# Altium footprint library CONN-TH_2P-P2.50_XH-2A_3045048.PcbLib: 1 footprints
Each footprint in its own frame and in the unit in brackets; x right, y up, seen from the top. Pads: shape width x height; smd on the part's side, far side on the other; paste and mask are expansions set on the pad; w line width, h text height; cw(c..) or ccw(c..) is an arc to the next point about the centre after c.
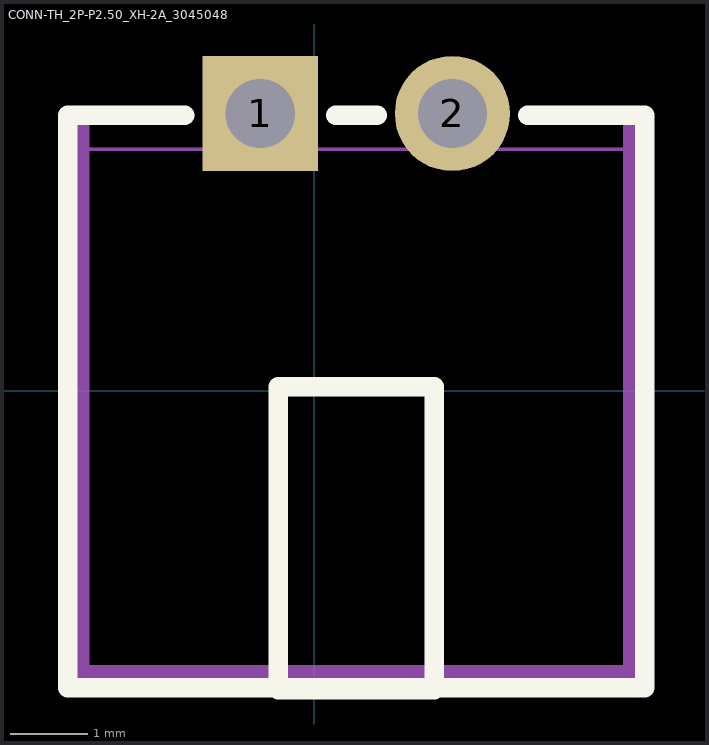
[diagram p0: the footprint, top view; thin cyan lines are the x and y axes]

## CONN-TH_2P-P2.50_XH-2A_3045048 [mm]
pads (2):
  rect 1.5x1.5 hole 0.9: 1(-0.703,3.606)
  round 1.5 hole 0.9: 2(1.797,3.606)
Top Overlay:
  lines w0.254: -3.203,3.542 -3.203,-3.858 4.297,-3.858 ; -3.203,3.583 -1.684,3.583 ; 0.278,3.583 0.816,3.583 ; 2.778,3.583 4.297,3.583 4.297,-3.859 ; -0.469,-3.887 -0.469,0.05 1.563,0.05 1.563,-3.887 -0.469,-3.887
Mechanical 6:
  region: -2.926,3.506 -2.926,-3.567 4.02,-3.567 4.02,3.406 4.02,3.459 4.094,3.533 4.2,3.533 4.274,3.459 4.274,3.406 4.274,-3.694 4.274,-3.719 4.255,-3.766 4.219,-3.801 4.172,-3.821 4.147,-3.821 -3.053,-3.821 -3.078,-3.821 -3.125,-3.801 -3.161,-3.766 -3.18,-3.719 -3.18,-3.694 -3.18,3.506 -3.18,3.559 -3.106,3.633 -3,3.633 -2.926,3.559 -2.926,3.506
Mechanical 15:
  region: 1.482,3.921 2.112,3.921 2.112,3.14 1.482,3.14
  region: -1.018,3.921 -0.388,3.921 -0.388,3.14 -1.018,3.14
  region: 1.482,3.921 2.112,3.921 2.112,3.291 1.482,3.291
  region: -1.018,3.921 -0.388,3.921 -0.388,3.291 -1.018,3.291
  region: -3.143,-3.858 -3.143,-3.833 -3.178,-3.798 -3.228,-3.798 -3.263,-3.833 -3.263,-3.858 -3.263,-3.883 -3.228,-3.918 -3.178,-3.918 -3.143,-3.883 -3.143,-3.858
  lines w0.051: -3.203,-3.858 4.297,-3.858 4.297,3.142 -3.203,3.142 -3.203,-3.858
3D body "JST-XH2-SMD.step": height 6, standoff -0.1, extent -4.492,-5.26 5.508,4.94